# Altium footprint library FootprintLib.PcbLib: 194 footprints (part 13 of 13)
Each footprint in its own frame and in the unit in brackets; x right, y up, seen from the top. Pads: shape width x height; smd on the part's side, far side on the other; paste and mask are expansions set on the pad; w line width, h text height; cw(c..) or ccw(c..) is an arc to the next point about the centre after c.
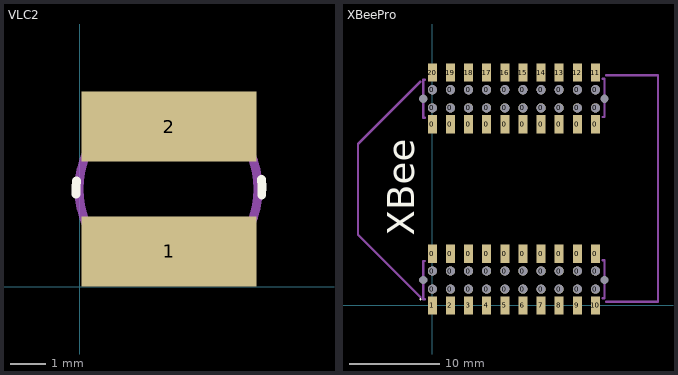
[diagram p12: the footprints below, top view; thin cyan lines are the x and y axes]

## VLC2 [mm]
height 2
pads (2):
  rect 5x2 smd: 1(2.54,1.016) 2(2.54,4.572)
Top Overlay:
  lines w0.254: -0.108,2.646 cw(c2.54,2.794) -0.101,3.029 ; 5.177,3.073 cw(c2.54,2.794) 5.186,2.616
Mechanical 1:
  circle w0.254: c2.527,2.794 r2.553

## XBeePro [mm]
height 2.15
pads (84):
  rect 0x0 hole 0.9: 0(-1,2.8) 0(-1,22.8) 0(19,2.8) 0(19,22.8)
  round 1 hole 1: 0(0,1.8) 0(0,3.8) 0(0,21.8) 0(0,23.8) 0(2,1.8) 0(2,3.8) 0(2,21.8) 0(2,23.8) 0(4,1.8) 0(4,3.8) 0(4,21.8) 0(4,23.8) 0(6,1.8) 0(6,3.8) 0(6,21.8) 0(6,23.8) 0(8,1.8) 0(8,3.8) 0(8,21.8) 0(8,23.8) 0(10,1.8) 0(10,3.8) 0(10,21.8) 0(10,23.8) 0(12,1.8) 0(12,3.8) 0(12,21.8) 0(12,23.8) 0(14,1.8) 0(14,3.8) 0(14,21.8) 0(14,23.8) 0(16,1.8) 0(16,3.8) 0(16,21.8) 0(16,23.8) 0(18,1.8) 0(18,3.8) 0(18,21.8) 0(18,23.8)
  rect 1x2 smd: 0(0,5.7) 0(0,20) 0(2,5.7) 0(2,20) 0(4,5.7) 0(4,20) 0(6,5.7) 0(6,20) 0(8,5.7) 0(8,20) 0(10,5.7) 0(10,20) 0(12,5.7) 0(12,20) 0(14,5.7) 0(14,20) 0(16,5.7) 0(16,20) 0(18,5.7) 0(18,20) 1(0,0) 2(2,0) 3(4,0) 4(6,0) 5(8,0) 6(10,0) 7(12,0) 8(14,0) 9(16,0) 10(18,0) 11(18,25.7) 12(16,25.7) 13(14,25.7) 14(12,25.7) 15(10,25.7) 16(8,25.7) 17(6,25.7) 18(4,25.7) 19(2,25.7) 20(0,25.7)
Top Overlay:
  lines w0.254: -1.3,0.7 -1.3,0.7
  text "XBee" at -2,7.7 h3
Mechanical 1:
  lines w0.254: -1.3,0.9 -8.2,7.8 -8.2,17.8 -1.3,24.7 ; -0.8,0.7 -1,0.7 -1,4.9 -0.8,4.9 ; -0.8,20.7 -1,20.7 -1,24.9 -0.8,24.9 ; 18.8,0.8 19,0.8 19,5 18.8,5 ; 18.8,20.8 19,20.8 19,25 18.8,25 ; 19.2,0.4 24.9,0.4 24.9,25.4 19.2,25.4